# Altium schematic symbol library SGM8551XN5.SchLib: 1 symbol
Pins are listed as number, name and electrical type; pins without a type are passive.

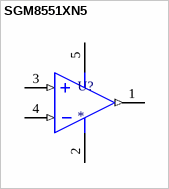
[diagram p0: symbol SGM8551XN5]

## SGM8551XN5
designator U?
pins: 1 OUT (out), 2 GND (power), 3 IN+ (in), 4 IN- (in), 5 VCC+ (power)